# Altium footprint library LoRa-RA2.PcbLib: 1 footprints
Each footprint in its own frame and in the unit in brackets; x right, y up, seen from the top. Pads: shape width x height; smd on the part's side, far side on the other; paste and mask are expansions set on the pad; w line width, h text height; cw(c..) or ccw(c..) is an arc to the next point about the centre after c.
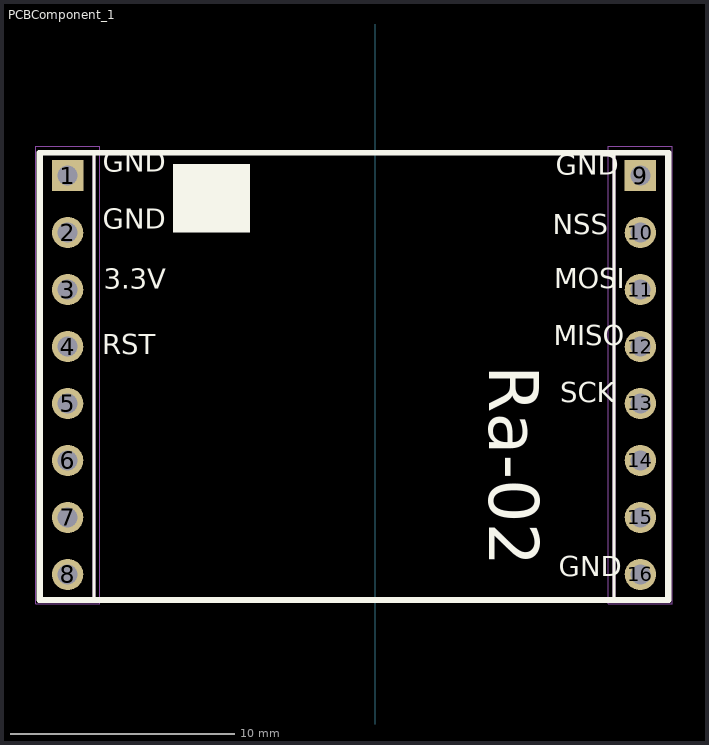
[diagram p0: the footprint, top view; thin cyan lines are the x and y axes]

## PCBComponent_1 [mil]
pads (16):
  rect 55x55 hole 35: 1(-540,-990) 9(465,-990)
  round 55 hole 35: 2(-540,-1090) 3(-540,-1190) 4(-540,-1290) 5(-540,-1390) 6(-540,-1490) 7(-540,-1590) 8(-540,-1690) 10(465,-1090) 11(465,-1190) 12(465,-1290) 13(465,-1390) 14(465,-1490) 15(465,-1590) 16(465,-1690)
Top Overlay:
  rectangle: -355,-1090 -220,-970
  lines w5: -586.06,-1732.01 -493.94,-1732.01 -493.94,-947.99 -586.06,-947.99 -586.06,-1732.01 ; 418.94,-1732.01 418.94,-947.99 511.06,-947.99 511.06,-1732.01 418.94,-1732.01
  lines w10: -590,-1735 -590,-950 515,-950 515,-1735 -590,-1735
  text "Ra-02" at 170.97,-1323.21 h150
  text "RST" at -479.47,-1314.56 h60
  text "GND" at 316.59,-999.61 h60
  text "SCK" at 324.37,-1399.44 h60
  text "MISO" at 313.49,-1299.56 h60
  text "MOSI" at 313.57,-1199.56 h60
  text "NSS" at 311.56,-1104.56 h60
  text "3.3V" at -476.3,-1199.61 h60
  text "GND" at 321.59,-1704.61 h60
  text "GND" at -478.41,-1094.61 h60
  text "GND" at -478.41,-994.61 h60
Mechanical 13:
  lines w5: -586.06,-1732.01 -493.94,-1732.01 -493.94,-947.99 -586.06,-947.99 -586.06,-1732.01 ; 418.94,-1732.01 418.94,-947.99 511.06,-947.99 511.06,-1732.01 418.94,-1732.01
Mechanical 15:
  lines w1.97: -595.91,-1741.85 -595.91,-938.15 -484.09,-938.15 -484.09,-1741.85 -595.91,-1741.85 ; 409.09,-1741.85 409.09,-938.15 520.91,-938.15 520.91,-1741.85 409.09,-1741.85